# Altium footprint library U.FL_Connector_Male.PcbLib: 1 footprints
Each footprint in its own frame and in the unit in brackets; x right, y up, seen from the top. Pads: shape width x height; smd on the part's side, far side on the other; paste and mask are expansions set on the pad; w line width, h text height; cw(c..) or ccw(c..) is an arc to the next point about the centre after c.
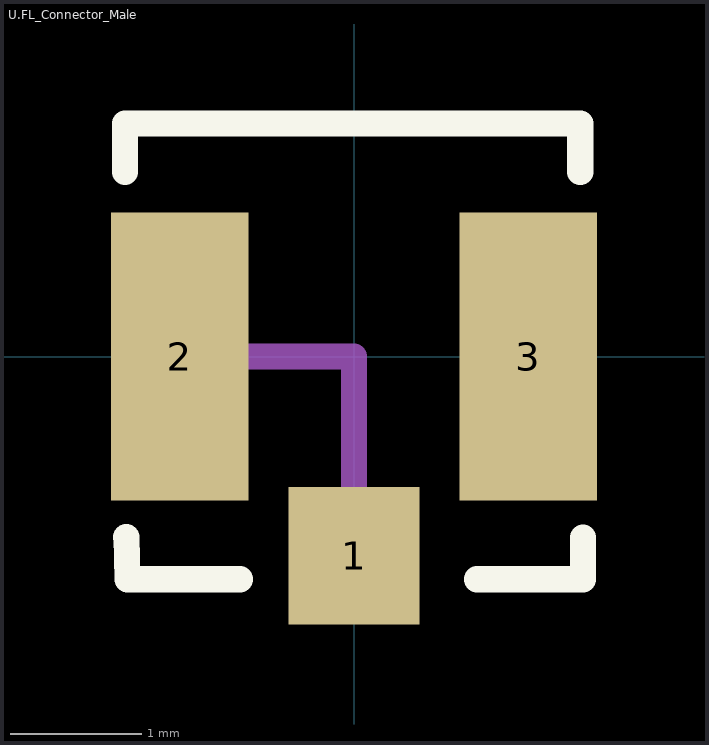
[diagram p0: the footprint, top view; thin cyan lines are the x and y axes]

## U.FL_Connector_Male [mm]
height 1.25
pads (3):
  rect 1x1.05 smd: 1(0,-1.52)
  rect 1.05x2.2 smd: 2(-1.33,0) 3(1.33,0)
Top Overlay:
  lines w0.2: -1.75,1.41 -1.75,1.78 1.728,1.78 1.728,1.41 ; -1.739,-1.38 -1.73,-1.7 -0.87,-1.7 ; 0.94,-1.7 1.75,-1.7 1.75,-1.38
Mechanical 1:
  lines w0.2: -0.8,0 0,0 0,-1
3D body "U_FL-R-SMT-1.step": height 1.25, standoff -0.01, extent -1.5,-1.55 1.5,1.55